# Altium schematic symbol library koruza-power-module-Schlib.SchLib: 7 symbols
Pins are listed as number, name and electrical type; pins without a type are passive.

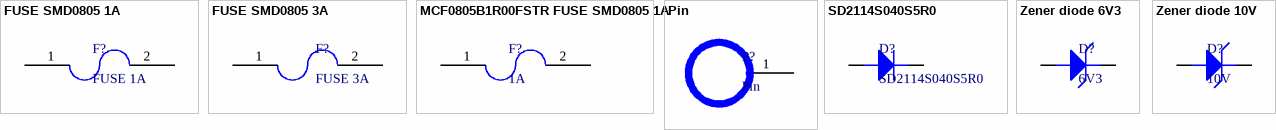
[diagram p0: symbols FUSE SMD0805 1A to Zener diode 10V]

## FUSE SMD0805 1A
designator F?, comment FUSE 1A
VISHAY - MFU0805FF01000P100. - FUSE, 0805 SMD, 1A; Fuse Current: 1; Voltage Rating V DC: 32; Blow Characteristic: Fast Acting; Breaking Capacity Current DC: 50; SVHC: No SVHC (15-Jun-2015); Breaking Capacity: 50A @ 32; Supplier 1: Farnell; Manufacturer: VISHAY; Manufacturer Part Number: MFU0805FF01000P100.; RoHS: Y-EX; Pricing 1: 10=0.481, 50=0.368, 100=0.277, 250=0.255, 500=0.23, 1000=0.216 (GBP); Product Range: -; Voltage Rating V AC: -; Fuse Case Style: SMD; Breaking Capacity Current AC: -; Packaging: Cut Tape<!--FANDB--><div class="features-and-benefits-container"></div>; ComponentLink1URL: http://www.farnell.com/datasheets/1480005.pdf; ComponentLink1Description: http://www.farnell.com/datasheets/1480005.pdf; Supplier Part Number 1: 2057180
footprint FUSE0805
pins: 1 (oc), 2 (oc)

## FUSE SMD0805 3A
designator F?, comment FUSE 3A
VISHAY - MFU0805FF03000P100 - FUSE, 0805 SMD, 3A; Supplier 1: Farnell; Manufacturer: VISHAY; Manufacturer Part Number: MFU0805FF03000P100; RoHS: Y-EX; Stock 1: 616; Pricing 1: 1=0.548, 50=0.382, 100=0.292, 250=0.265, 500=0.225, 1000=0.166, 5000=0.163, 10000=0.157 (GBP); ComponentLink1URL: http://www.farnell.com/datasheets/2243611.pdf; ComponentLink1Description: http://www.farnell.com/datasheets/2243611.pdf; Supplier Part Number 1: 2057187
footprint FUSE0805
pins: 1 (oc), 2 (oc)

## MCF0805B1R00FSTR FUSE SMD0805 1A
designator F?, comment 1A
MULTICOMP - MCF0805B1R00FSTR - FUSE, SMD, 0805, 1A; Fuse Current: 1; Voltage Rating V DC: 63; Blow Characteristic: Fast Acting; Fuse Case Style: 0805; Breaking Capacity Current DC: 50; SVHC: No SVHC (17-Dec-2015); Supplier 1: Farnell; Manufacturer: MULTICOMP; Manufacturer Part Number: MCF0805B1R00FSTR; RoHS: YES; Stock 1: 7549; Pricing 1: 10=0.587, 50=0.475, 100=0.43, 250=0.403, 500=0.32, 3000=0.215 (GBP); Product Range: MCF0805; Voltage Rating V AC: -; Breaking Capacity Current AC: -; Packaging: Cut Tape<!--FANDB--><div class="features-and-benefits-container"></div>; ComponentLink1URL: http://www.farnell.com/datasheets/2019197.pdf; ComponentLink1Description: http://www.farnell.com/datasheets/2019197.pdf; Supplier Part Number 1: 1337418
footprint FUSE0805
pins: 1 (oc), 2 (oc)

## Pin
designator P?  (no BOM)
Pin for board to board connection
footprint PCBComponent_1
pins: 1 (oc)

## SD2114S040S5R0
designator D?
AVX - SD2114S040S5R0 - DIODE, SCHOTTKY, 5A, 40V, D0-214AA; Repetitive Reverse Voltage Vrrm Max: 40; Forward Current If(AV): 5; Diode Configuration: Single; Diode Case Style: DO-214; No. of Pins: 2; Forward Voltage VF Max: 550; Forward Surge Current Ifsm Max: 105; Product Range: SD211 Series; SVHC: No SVHC (17-Dec-2015); Supplier 1: Farnell; Manufacturer: AVX; Manufacturer Part Number: SD2114S040S5R0; RoHS: YES; Stock 1: 9585; Pricing 1: 1=0.6, 25=0.504, 100=0.393, 250=0.315, 500=0.237, 5000=0.205 (GBP); Operating Temperature Max: 125; Packaging: Cut Tape; Automotive Qualification Standard: -; Diode Type: Schottky; MSL: MSL 1 - Unlimited; Operating Temperature Min: -55°C<!--FANDB--><div class="features-and-benefits-container"><div class="features-and-benefits-description"><span class="features-benefits-value">The SD2114S040S5R0 is a Schottky Barrier Rectifier Diode in FRP substrate with epoxy under-fill case and solderable lead-free tin-plated per MIL-STD-750 terminals. It offers unique lead-less chip which technology eliminates the lead frame wire bond to give the chip top-bottom symmetry for fewer mounting problems, better heat transfer and current handling capability (compared to SOD devices). It is suitable for use in switch mode power supplies, high-frequency rectification and reverse bias protection applications.</span></div><div class="features-and-benefits-list"><ul class="features-and-benefits-list-list"><li class="features-and-benefits-list-item">High-current capability</li><li class="features-and-benefits-list-item">Low-power loss/high-efficiency</li><li class="features-and-benefits-list-item">Halogen-free</li></ul></div><div class="features-and-benefits-applications"><ul class="features-and-benefits-value"><li class="features-and-benefits-list-item">Power Management</li><li class="features-and-benefits-list-item">Industrial</li><li class="features-and-benefits-list-item">Aerospace, Defence, Military</li></ul></div></div>; ComponentLink1URL: http://www.farnell.com/datasheets/2239358.pdf; ComponentLink1Description: http://www.farnell.com/datasheets/2239358.pdf; Supplier Part Number 1: 2400187
pins: 1 cathode, 2 ANODE

## Zener diode 6V3
designator D?, comment 6V3
VISHAY - BZM55C6V2-TR - DIODE, ZENER, 6.2V, 0.5W; Zener Voltage Vz Typ: 6.2; Power Dissipation Pd: 500; Diode Case Style: MicroMELF; Zener Tolerance ±: 5%; No. of Pins: 2; Product Range: BZM55 Series; Automotive Qualification Standard: AEC-Q101; Test Current: 5; Supplier 1: Farnell; Manufacturer: VISHAY; Manufacturer Part Number: BZM55C6V2-TR; RoHS: Y-EX; Stock 1: 14419; Pricing 1: 1=0.143, 25=0.138, 100=0.066, 250=0.0524, 1000=0.0339, 2000=0.0266, 6000=0.0226, 20000=0.0207 (GBP); Operating Temperature Max: 175; Packaging: Cut Tape; MSL: MSL 1 - Unlimited; Operating Temperature Min: -65; Operating Temperature Range: -65°C to +175; Power Dissipation Max: 500; Power Dissipation Ptot Max: 500; Termination Type: Surface Mount Device; ComponentLink1URL: http://www.farnell.com/datasheets/2047097.pdf; ComponentLink1Description: http://www.farnell.com/datasheets/2047097.pdf; Supplier Part Number 1: 1469416
pins: 1 cathode, 2 ANODE

## Zener diode 10V
designator D?, comment 10V
VISHAY - BZM55C10-TR - DIODE, ZENER, VZ 10V; Zener Voltage Vz Typ: 10; Power Dissipation Pd: 500; Diode Case Style: MicroMELF; Zener Tolerance ±: 5%; No. of Pins: 2; Product Range: BZM55 Series; Automotive Qualification Standard: AEC-Q101; Test Current: 5; Supplier 1: Farnell; Manufacturer: VISHAY; Manufacturer Part Number: BZM55C10-TR; RoHS: Y-EX; Stock 1: 8754; Pricing 1: 1=0.144, 25=0.138, 50=0.134, 100=0.0656, 500=0.034, 2000=0.0266, 6000=0.0226, 20000=0.0207 (GBP); Operating Temperature Max: 175; Packaging: Cut Tape; MSL: MSL 1 - Unlimited; Operating Temperature Min: -65; Operating Temperature Range: -65°C to +175; Power Dissipation Max: 500; Termination Type: Surface Mount Device; ComponentLink1URL: http://www.farnell.com/datasheets/2047097.pdf; ComponentLink1Description: http://www.farnell.com/datasheets/2047097.pdf; Supplier Part Number 1: 1651600
pins: 1 cathode, 2 ANODE